# EAGLE library part 74HC21_DUAL_4-INPUT_AND_GATE (library DMF-TimerProject)
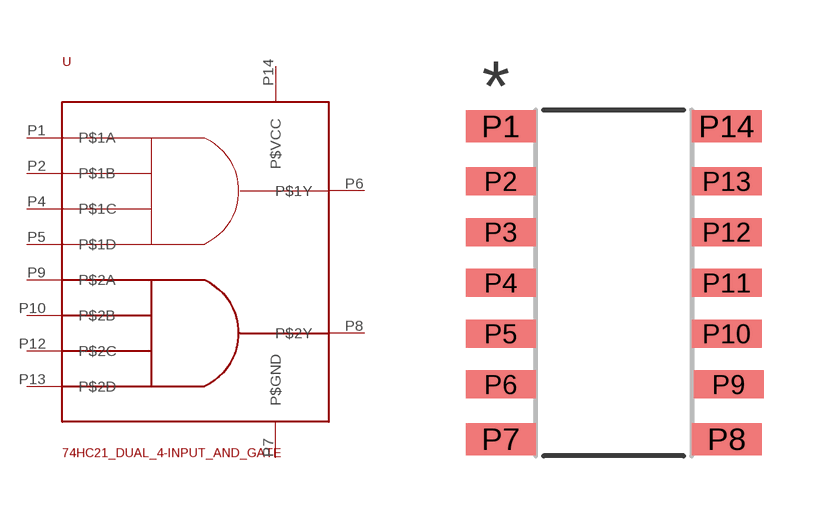
[diagram p0: symbol with the pads of 74HC21_14SO; footprint 74HC21_14SO]

Designator prefix -

## 74HC21_DUAL_4-INPUT_AND_GATE  [74HC21_14SO]
P1  P$1A
P2  P$1B
P4  P$1C
P5  P$1D
P6  P$1Y
P7  P$GND
P8  P$2Y
P9  P$2A
P10  P$2B
P12  P$2C
P13  P$2D
P14  P$VCC

## Footprint 74HC21_14SO (pad centres in mm)
smd 1.75 x 0.8: P1 -2.825,3.91; P7 -2.825,-3.91; P8 2.825,-3.91; P14 2.825,3.91
smd 1.75 x 0.7: P2 -2.825,2.54; P3 -2.825,1.27; P4 -2.825,0; P5 -2.825,-1.27; P6 -2.825,-2.54; P9 2.875,-2.54; P10 2.825,-1.27; P11 2.825,0; P12 2.825,1.27; P13 2.825,2.54